# Altium footprint library SR PCB Library V01.PcbLib: 402 footprints (part 4 of 26)
Each footprint in its own frame and in the unit in brackets; x right, y up, seen from the top. Pads: shape width x height; smd on the part's side, far side on the other; paste and mask are expansions set on the pad; w line width, h text height; cw(c..) or ccw(c..) is an arc to the next point about the centre after c.
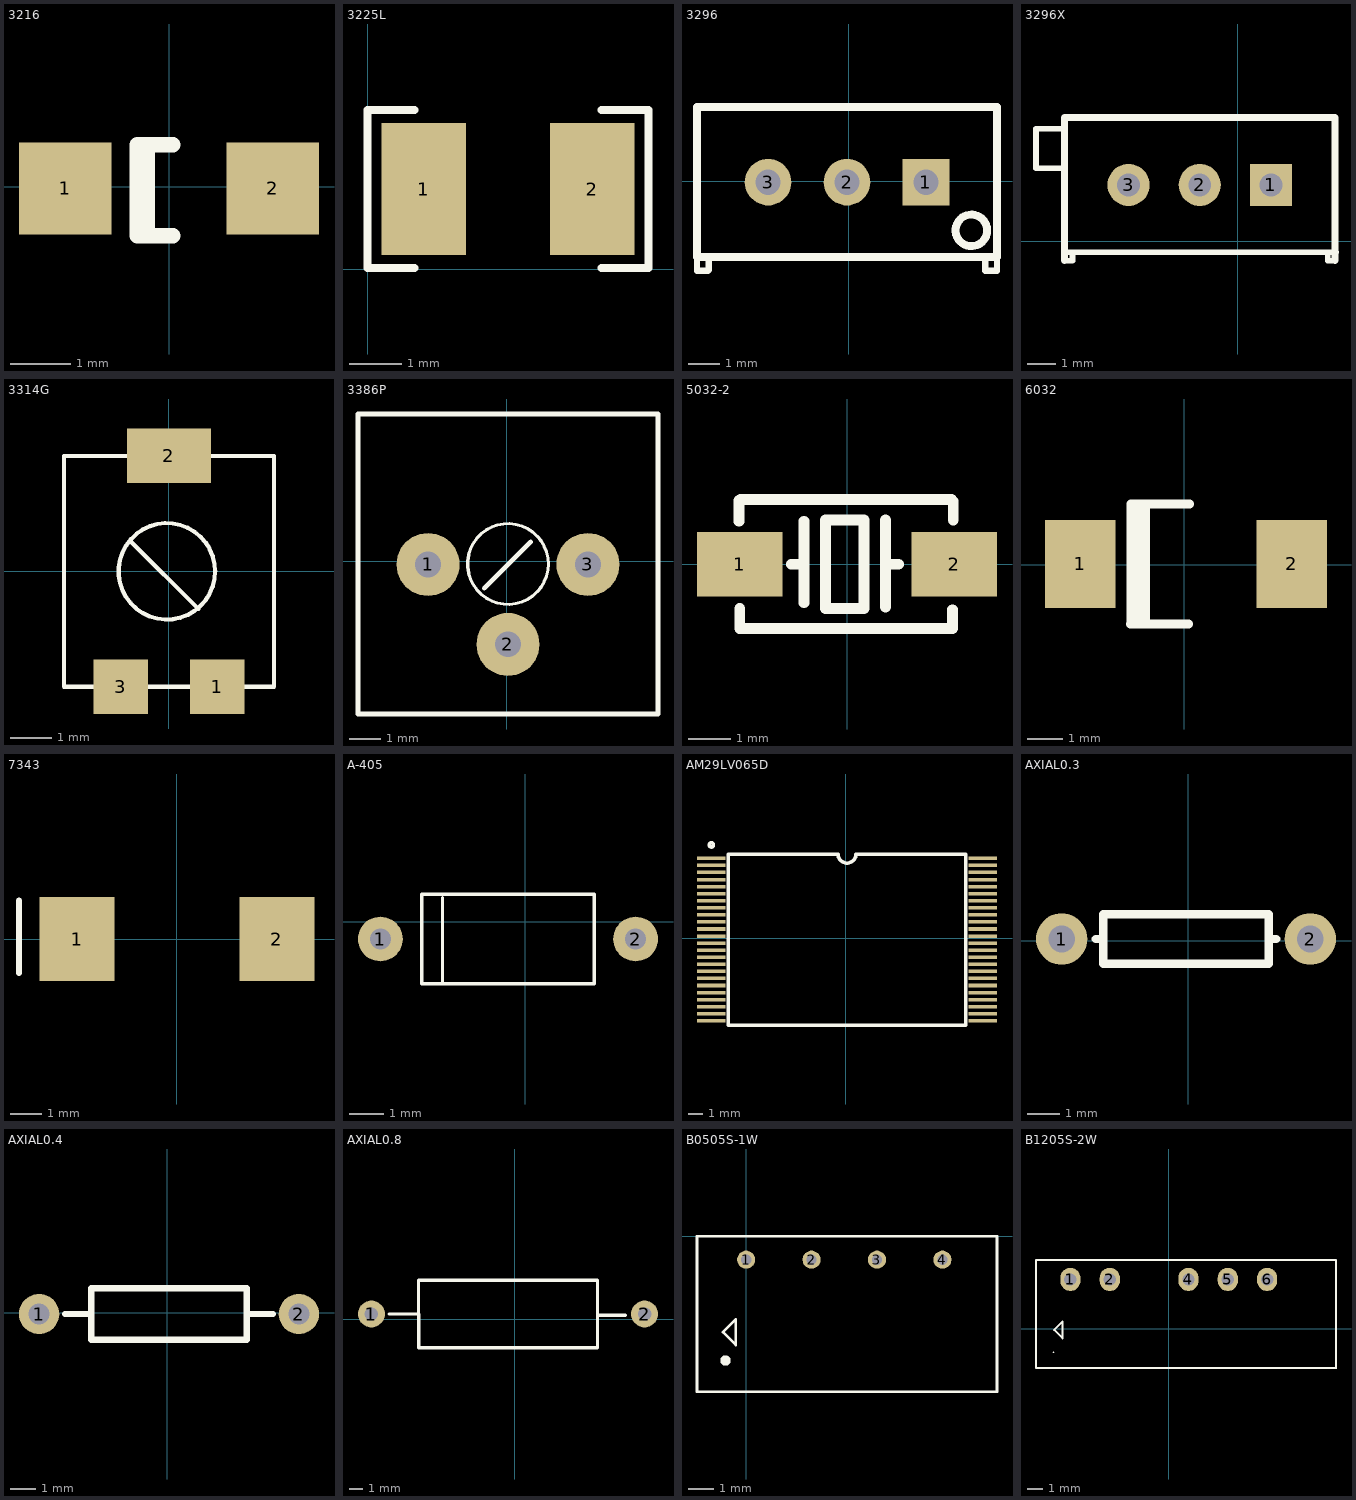
[diagram p3: the footprints below, top view; thin cyan lines are the x and y axes]

## 3216 [mil] "贴片钽电容"
pads (2):
  rect 60x60 smd: 1(-67.5,-1) 2(67.5,-1)
Top Overlay:
  lines w10: -13.96,-29.35 -13.96,27.35 ; 2.58,-31.71 -20.65,-31.71 -20.65,27.35 2.58,27.35

## 3225L [mm]
pads (2):
  rect 1.6x2.5 smd: 1(1.067,1.524) 2(4.267,1.524)
Top Overlay:
  lines w0.15: 0.889,0.025 0,0.025 0,3.023 0.889,3.023 ; 4.445,0.025 5.334,0.025 5.334,3.023 4.445,3.023

## 3296 [mil] "电位器"
pads (3):
  rect 59.06x59.06 hole 32: 1(98,-1)
  round 59.06 hole 32: 2(-2,-1) 3(-102,-1)
Top Overlay:
  circle w10: c155.56,-62.02 r20
  lines w7.87: -192,-96 -192,-113.26 -178.08,-113.26 -177.17,-112.35 -177.17,-96 ; 173.23,-96 173.23,-113.2 188,-113.2 188,-96
  lines w10: -192,-96 188,-96 188,94 178,94 -182,94 -192,94 -192,-96

## 3296X [mm]
pads (3):
  rect 1.5x1.5 hole 0.813: 1(1.18,2)
  round 1.5 hole 0.813: 2(-1.36,2) 3(-3.9,2)
Top Overlay:
  lines w0.2: -6.3,2.6 -7.2,2.6 -7.2,4 -6.3,4 ; -6.2,-0.4 -5.9,-0.4 ; -6.186,-0.7 -5.9,-0.7 -5.9,-0.4 ; 3.466,-0.7 3.2,-0.7 3.2,-0.4 ; 3.5,-0.4 3.2,-0.4 ; -5.9,-0.4 3.2,-0.4
  lines w0.254: -6.186,-0.7 -6.186,4.413 -5.932,4.413 3.212,4.413 3.466,4.413 3.466,-0.7

## 3314G [mm]
pads (3):
  rect 1.3x1.3 smd: 1(1.15,-2.75) 3(-1.15,-2.75)
  rect 2x1.3 smd: 2(0,2.75)
Top Overlay:
  circle w0.1: c-0.05,0 r1.15
  lines w0.1: -0.9,0.7 0.7,-0.9 ; -2.5,-2.75 2.5,-2.75 2.5,2.75 -2.5,2.75 -2.5,-2.75

## 3386P [mm]
pads (3):
  round 2 hole 0.813: 1(-2.499,-0.106) 2(0.041,-2.646) 3(2.581,-0.106)
Top Overlay:
  circle w0.1: c0.041,-0.091 r1.282
  lines w0.15: -0.711,-0.864 0.762,0.61 ; -4.724,-4.856 -4.724,4.674 4.806,4.674 4.806,-4.856 -4.724,-4.856

## 5032-2 [mm]
height 1.75
pads (2):
  rect 2x1.5 smd: 1(-2.5,0) 2(2.5,0)
Top Overlay:
  lines w0.254: -2.516,1.002 -2.516,1.484 -2.488,1.512 2.436,1.512 2.478,1.47 2.478,1.031 ; -2.502,-1.035 -2.502,-1.502 2.464,-1.502 ; -1.3,0 -1,0 ; -1,-0.9 -1,1.002 ; -0.5,1 -0.5,-1.035 0.4,-1.035 0.4,-0.518 0.4,0.514 0.4,1.031 -0.5,1.031 ; 0.9,-1 0.9,1.031 ; 1,0 1.2,0 ; 2.464,-1.063 2.464,-1.502 ; 2.464,-1.502 2.464,-1.502

## 6032 [mm] "贴片钽电容"
pads (2):
  rect 2x2.5 smd: 1(-2.949,0.025) 2(3.051,0.025)
Top Overlay:
  lines w0.254: -1.524,-1.676 0.122,-1.676 ; -1.508,-1.675 -1.508,1.725 ; -1.499,1.727 0.147,1.727 ; -1.27,-1.675 -1.27,1.725 ; -1.092,-1.675 -1.092,1.725

## 7343 [mm]
pads (2):
  rect 2.4x2.7 smd: 1(-3.2,0) 2(3.2,0)
Top Overlay:
  lines w0.2: -5.06,-1.088 -5.06,1.222

## A-405 [mm]
pads (2):
  round 1.3 hole 0.6: 1(-4.2,-0.5) 2(3.2,-0.5)
Top Overlay:
  lines w0.1: -2.4,-1.8 -2.4,0.7 ; -3,-1.8 2,-1.8 2,0.8 -3,0.8 -3,-1.8

## AM29LV065D [mm]
pads (48):
  rect 2.032x0.25 smd: 1(-9.525,5.639) 2(-9.525,5.139) 3(-9.525,4.639) 4(-9.525,4.139) 5(-9.525,3.639) 6(-9.525,3.139) 7(-9.525,2.639) 8(-9.525,2.139) 9(-9.525,1.639) 10(-9.525,1.139) 11(-9.525,0.639) 12(-9.525,0.139) 13(-9.525,-0.361) 14(-9.525,-0.861) 15(-9.525,-1.361) 16(-9.525,-1.861) 17(-9.525,-2.361) 18(-9.525,-2.861) 19(-9.525,-3.361) 20(-9.525,-3.861) 21(-9.525,-4.361) 22(-9.525,-4.861) 23(-9.525,-5.361) 24(-9.525,-5.861) 25(9.675,-5.861) 26(9.675,-5.361) 27(9.675,-4.861) 28(9.675,-4.361) 29(9.675,-3.861) 30(9.675,-3.361) 31(9.675,-2.861) 32(9.675,-2.361) 33(9.675,-1.861) 34(9.675,-1.361) 35(9.675,-0.861) 36(9.675,-0.361) 37(9.675,0.139) 38(9.675,0.639) 39(9.675,1.139) 40(9.675,1.639) 41(9.675,2.139) 42(9.675,2.639) 43(9.675,3.139) 44(9.675,3.639) 45(9.675,4.139) 46(9.675,4.639) 47(9.675,5.139) 48(9.675,5.639)
Top Overlay:
  circle w0.25: c-9.525,6.589 r0.15
  lines w0.25: -8.325,-6.161 -8.325,5.939 -0.56,5.939 ccw(c0.075,5.939) 0.71,5.939 8.475,5.939 8.475,-6.161 -8.325,-6.161

## AXIAL0.3 [mil]
pads (2):
  round 62 hole 32: 1(-153,2) 2(147,2)
Top Overlay:
  lines w10: -112,2 -103,2 ; 106,2 97,2 ; 97,2 97,-28 -103,-28 -103,32 97,32 97,2

## AXIAL0.4 [mil]
pads (2):
  round 62 hole 32: 1(-197,-2) 2(203,-2)
Top Overlay:
  lines w10: -157,-2 -117,-2 ; 123,-2 163,-2 ; -117,-42 123,-42 123,38 -117,38 -117,-42

## AXIAL0.8 [mm]
pads (2):
  round 2 hole 1: 1(-10.668,0.406) 2(9.652,0.406)
Top Overlay:
  lines w0.254: -9.328,0.406 -7.168,0.406 -7.168,2.906 6.152,2.906 6.152,-2.094 -7.168,-2.094 -7.158,-2.084 -7.158,0.406 ; 6.152,0.306 8.212,0.306

## B0505S-1W [mm]
pads (4):
  round 0.7 hole 0.4: 1(0,-0.9) 2(2.53,-0.9) 3(5.06,-0.9) 4(7.59,-0.9)
Top Overlay:
  circle w0.2: c-0.8,-4.8 r0.1
  lines w0.1: -1.9,-6 -1.9,0 9.7,0 9.7,-6 -1.9,-6 ; -0.9,-3.7 -0.4,-3.2 -0.4,-4.2 -0.9,-3.7

## B1205S-2W [mm]
pads (5):
  oval 1.3x1.5 hole 0.8: 1(-6.35,3.175) 2(-3.81,3.175) 4(1.27,3.175) 5(3.81,3.175) 6(6.35,3.175)
Top Overlay:
  lines w0.127: -8.572,-2.555 -8.572,4.445 10.795,4.445 10.795,-2.54 10.78,-2.555 -8.572,-2.555 ; -7.45,-1.525 -7.45,-1.525 ; -7.4,-0.075 -6.85,0.475 -6.85,-0.625 -7.4,-0.075